# Altium footprint library Logic.PcbLib: 2 footprints
Each footprint in its own frame and in the unit in brackets; x right, y up, seen from the top. Pads: shape width x height; smd on the part's side, far side on the other; paste and mask are expansions set on the pad; w line width, h text height; cw(c..) or ccw(c..) is an arc to the next point about the centre after c.
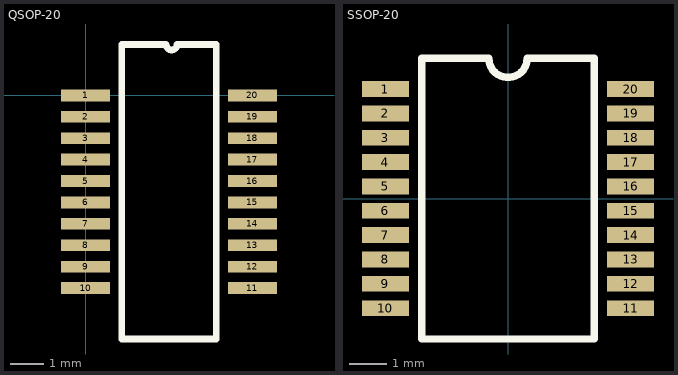
[diagram p0: the footprints below, top view; thin cyan lines are the x and y axes]

## QSOP-20 [mm]
pads (20):
  rect 1.45x0.35 smd: 1(0,0) 2(0,-0.635) 3(0,-1.27) 4(0,-1.905) 5(0,-2.54) 6(0,-3.175) 7(0,-3.81) 8(0,-4.445) 9(0,-5.08) 10(0,-5.715) 11(4.95,-5.715) 12(4.95,-5.08) 13(4.95,-4.445) 14(4.95,-3.81) 15(4.95,-3.175) 16(4.95,-2.54) 17(4.95,-1.905) 18(4.95,-1.27) 19(4.95,-0.635) 20(4.95,0)
Top Overlay:
  lines w0.2: 1.075,-7.226 1.075,1.511 2.389,1.511 ccw(c2.551,1.511) 2.714,1.511 3.875,1.511 3.875,-7.226 1.075,-7.226
3D body: height 1.73, standoff 0.25, extent 0.475,-7.233 4.475,1.518
3D body: height 0.86, standoff 0, extent -0.525,-0.15 0.475,0.15
3D body: height 0.86, standoff 0, extent -0.525,-0.785 0.475,-0.485
3D body: height 0.86, standoff 0, extent -0.525,-1.42 0.475,-1.12
3D body: height 0.86, standoff 0, extent -0.525,-2.055 0.475,-1.755
3D body: height 0.86, standoff 0, extent -0.525,-2.69 0.475,-2.39
3D body: height 0.86, standoff 0, extent -0.525,-3.325 0.475,-3.025
3D body: height 0.86, standoff 0, extent -0.525,-3.96 0.475,-3.66
3D body: height 0.86, standoff 0, extent -0.525,-4.595 0.475,-4.295
3D body: height 0.86, standoff 0, extent -0.525,-5.23 0.475,-4.93
3D body: height 0.86, standoff 0, extent -0.525,-5.865 0.475,-5.565
3D body: height 0.86, standoff 0, extent 4.475,-5.865 5.475,-5.565
3D body: height 0.86, standoff 0, extent 4.475,-5.23 5.475,-4.93
3D body: height 0.86, standoff 0, extent 4.475,-4.595 5.475,-4.295
3D body: height 0.86, standoff 0, extent 4.475,-3.96 5.475,-3.66
3D body: height 0.86, standoff 0, extent 4.475,-3.325 5.475,-3.025
3D body: height 0.86, standoff 0, extent 4.475,-2.69 5.475,-2.39
3D body: height 0.86, standoff 0, extent 4.475,-2.055 5.475,-1.755
3D body: height 0.86, standoff 0, extent 4.475,-1.42 5.475,-1.12
3D body: height 0.86, standoff 0, extent 4.475,-0.785 5.475,-0.485
3D body: height 0.86, standoff 0, extent 4.475,-0.15 5.475,0.15

## SSOP-20 [mm]
pads (20):
  rect 1.25x0.42 smd: 1(-3.275,2.925) 2(-3.275,2.275) 3(-3.275,1.625) 4(-3.275,0.975) 5(-3.275,0.325) 6(-3.275,-0.325) 7(-3.275,-0.975) 8(-3.275,-1.625) 9(-3.275,-2.275) 10(-3.275,-2.925) 11(3.275,-2.925) 12(3.275,-2.275) 13(3.275,-1.625) 14(3.275,-0.975) 15(3.275,-0.325) 16(3.275,0.325) 17(3.275,0.975) 18(3.275,1.625) 19(3.275,2.275) 20(3.275,2.925)
Top Overlay:
  lines w0.2: -0.525,3.75 -2.3,3.75 -2.3,-3.75 2.3,-3.75 2.3,3.75 0.513,3.75 cw(c0,3.75) -0.513,3.75
3D body: height 2, standoff 0.05, extent -2.8,-3.75 2.8,3.75
3D body: height 1, standoff 0, extent -3.8,2.738 -2.8,3.113
3D body: height 1, standoff 0, extent -3.8,2.088 -2.8,2.463
3D body: height 1, standoff 0, extent -3.8,1.438 -2.8,1.813
3D body: height 1, standoff 0, extent -3.8,0.788 -2.8,1.163
3D body: height 1, standoff 0, extent -3.8,0.138 -2.8,0.513
3D body: height 1, standoff 0, extent -3.8,-0.513 -2.8,-0.138
3D body: height 1, standoff 0, extent -3.8,-1.163 -2.8,-0.788
3D body: height 1, standoff 0, extent -3.8,-1.813 -2.8,-1.438
3D body: height 1, standoff 0, extent -3.8,-2.463 -2.8,-2.088
3D body: height 1, standoff 0, extent -3.8,-3.113 -2.8,-2.738
3D body: height 1, standoff 0, extent 2.8,-3.113 3.8,-2.738
3D body: height 1, standoff 0, extent 2.8,-2.463 3.8,-2.088
3D body: height 1, standoff 0, extent 2.8,-1.813 3.8,-1.438
3D body: height 1, standoff 0, extent 2.8,-1.163 3.8,-0.788
3D body: height 1, standoff 0, extent 2.8,-0.513 3.8,-0.138
3D body: height 1, standoff 0, extent 2.8,0.138 3.8,0.513
3D body: height 1, standoff 0, extent 2.8,0.788 3.8,1.163
3D body: height 1, standoff 0, extent 2.8,1.438 3.8,1.813
3D body: height 1, standoff 0, extent 2.8,2.088 3.8,2.463
3D body: height 1, standoff 0, extent 2.8,2.738 3.8,3.113